# Altium integrated library C1206C101JBGACTU.IntLib: 1 symbol
Pins are listed as number, name and electrical type; pins without a type are passive.

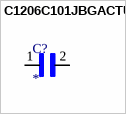
[diagram p0: symbol C1206C101JBGACTU]

## C1206C101JBGACTU
designator C?
CAP, MLCC, C0G, 100PF, 630V, 1206; MP: C1206C101JBGACTU; Package: None; Price: None; Value: *; Availability: Unavailable
footprint CAPC3216X110N
pins: 1, 2